# EAGLE library part DISCRETE_BAV70S (library chipKIT_Max32)
High Speed Switching Diode Array
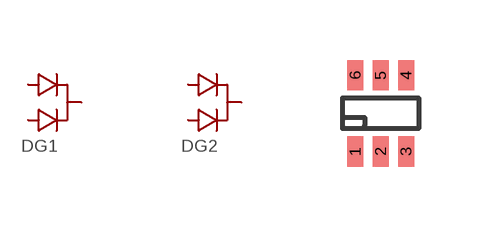
[diagram p0: symbol with the pads of DISCRETE_SOT-363; footprint DISCRETE_SOT-363]

Designator prefix D; gates G1=DISCRETE_BAV70 G2=DISCRETE_BAV70

## DISCRETE_BAV70S  [DISCRETE_SOT-363]
1  G1:A1
2  G1:A2
3  G2:K
4  G2:A1
5  G2:A2
6  G1:K

## Footprint DISCRETE_SOT-363 (pad centres in mm)
smd 0.4 x 0.762: 1 -0.635,-0.953; 2 0,-0.953; 3 0.635,-0.953; 4 0.635,0.953; 5 0,0.953; 6 -0.635,0.953